# Altium schematic symbol library ProjectName.Schlib: 1 symbol
Pins are listed as number, name and electrical type; pins without a type are passive.

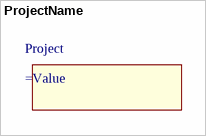
[diagram p0: symbol ProjectName]

## ProjectName
designator Project  (no BOM)